# Altium integrated library camera.IntLib: 3 symbols
Pins are listed as number, name and electrical type; pins without a type are passive.

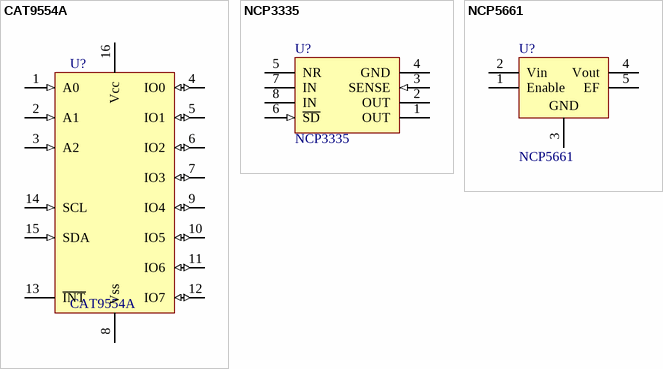
[diagram p0: symbols CAT9554A to NCP5661]

## CAT9554A
designator U?
8bit I2C port expander; Published: 16-Jan-2001; LatestRevisionDate: 13-Apr-2006; LatestRevisionNote: IPC-7351 Footprint Added.; DatasheetVersion: 1996; PackageReference: WSO16; Publisher: Altium Limited; PackageDescription: 16-Pin Small Outline Integrated Circuit 1.27 mm Pitch; Code_JEDEC: MS-013-AA; Code_IPC: SOIC127P1030-16; ComponentLink1Description: Manufacturer Link; ComponentLink1URL: http://www.maxim-ic.com/; ComponentLink2Description: Datasheet; ComponentLink2URL: http://pdfserv.maxim-ic.com/en/ds/DG300A-DG303A.pdf
footprint TSSOP16_N (TSOP, 16-Leads, Body 5x4.4mm, Pitch 0.65mm, IPC Medium Density)
pins: 1 A0 (in), 2 A1 (in), 3 A2 (in), 4 IO0 (io), 5 IO1 (io), 6 IO2 (io), 7 IO3 (io), 8 Vss, 9 IO4 (io), 10 IO5 (io), 11 IO6 (io), 12 IO7 (io), 13 ~{INT}, 14 SCL (in), 15 SDA (in), 16 Vcc (power)

## NCP3335
designator U?
NCP3335ADMADJR2G, ADJ Ultra High Accuracy, Low Iq, 500 mA Low Dropout Regulator; Published: 15-Apr-2002; LatestRevisionDate: 13-Apr-2006; LatestRevisionNote: IPC-7351 Footprint Added.; DatasheetVersion: 1998; PackageVersion: 1998; PackageReference: 751-05; Publisher: Altium Limited; PackageDescription: 8-Pin Small Outline Integrated Circuit 1.27 mm Pitch; Code_JEDEC: MS-012-AA; Code_IPC: SOIC127P600-8; ComponentLink1Description: Manufacturer Link; ComponentLink1URL: http://www.onsemi.com/site/products/taxonomy/0,4438,503,00.html; ComponentLink2Description: Datasheet; ComponentLink2URL: http://www.onsemi.com/pub/Collateral/MC33264-D.PDF
footprint ONSC-MICRO-8-846A-02_H_V (SOIC, 8-Leads, Body 3.1x3.1mm, Pitch 0.65mm)
pins: 1 OUT, 2 OUT, 3 SENSE (in), 4 GND (power), 5 NR, 6 ~{SD} (in), 7 IN, 8 IN

## NCP5661
designator U?
Low Dropout Voltage Regulator; Note: Heatsink surface is connected to Pin 3; Published: 15-Apr-2002; DatasheetVersion: 1997; PackageVersion: 1997; PackageReference: 314A-03; Publisher: Altium Limited; PackageDescription: TO, Thru-Hole, Horizontal, Heatsink Mounted; 5 Bent Staggered Leads; Pitch 1.7 mm; ComponentLink1Description: Manufacturer Link; ComponentLink1URL: http://www.onsemi.com/site/products/taxonomy/0,4438,503,00.html; ComponentLink2Description: Datasheet; ComponentLink2URL: http://www.onsemi.com/pub/Collateral/LM2931-D.PDF
footprint ONSC-DFN6-6-488-03_V (SON, 6-Leads, Body 2.2x2mm, Pitch 0.65mm)
footprint D-PAK SIP-G5/Z10.9 (D-PAK; 5 Leads (1 Cropped); Body 10.1 (inc. leads) x 6.6 mm (LxW max))
pins: 1 Enable (power), 2 Vin (power), 3 GND (power), 4 Vout (power), 5 EF (power)